# Altium footprint library 1N4007.PcbLib: 1 footprints
Each footprint in its own frame and in the unit in brackets; x right, y up, seen from the top. Pads: shape width x height; smd on the part's side, far side on the other; paste and mask are expansions set on the pad; w line width, h text height; cw(c..) or ccw(c..) is an arc to the next point about the centre after c.
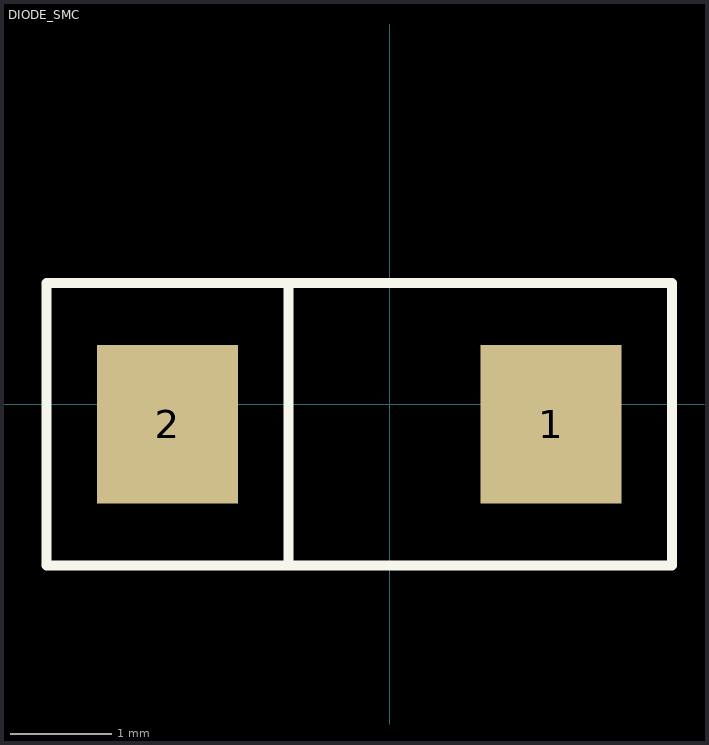
[diagram p0: the footprint, top view; thin cyan lines are the x and y axes]

## DIODE_SMC [mm] "Diode; 2 Leads"
height 2.2
pads (2):
  rect 1.4x1.57 smd: 1(1.6,-0.2) 2(-2.2,-0.2)
Top Overlay:
  lines w0.1: -1,-1.6 -1,1.2 ; -3.4,-1.6 2.8,-1.6 2.8,1.2 -2.2,1.2 -3.4,1.2 -3.4,-1.6
  text "-" at -3.505,1.195 h1
3D body "User Library-Diode SMD 1N4007.step": height 2.4, standoff -0.03, extent -2.95,-1.755 2.35,1.355